# Altium footprint library PCB1.PcbLib: 21 footprints (part 1 of 2)
Each footprint in its own frame and in the unit in brackets; x right, y up, seen from the top. Pads: shape width x height; smd on the part's side, far side on the other; paste and mask are expansions set on the pad; w line width, h text height; cw(c..) or ccw(c..) is an arc to the next point about the centre after c.
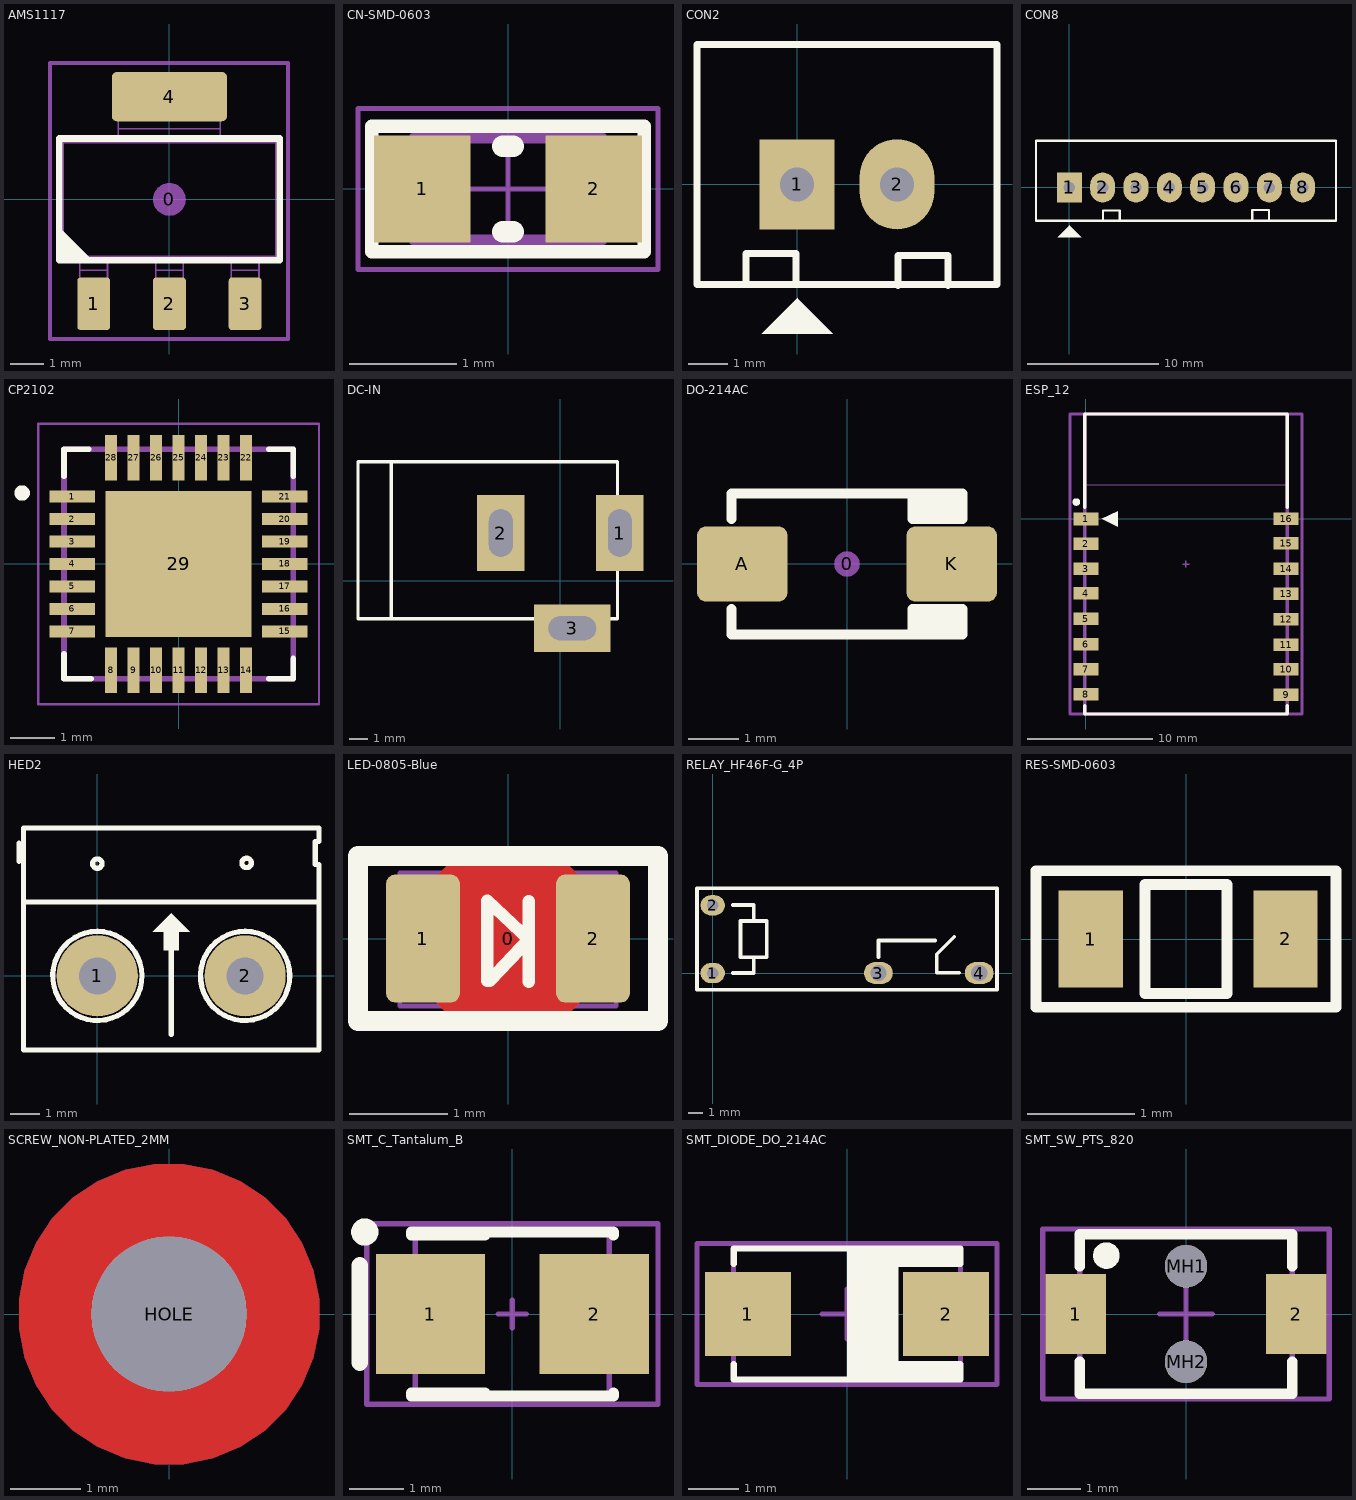
[diagram p0: the footprints below, top view; thin cyan lines are the x and y axes]

## AMS1117 [mm]
pads (5):
  round 1 on Mech15: 0(0,0)
  rrect20% 1x1.6 smd: 1(-2.3,-3.173) 2(0,-3.173) 3(2.3,-3.173)
  rrect20% 3.5x1.5 smd: 4(0,3.124)
Top Overlay:
  region: -3.35,-1.85 -3.35,-0.85 -2.35,-1.85
  lines w0.2: -3.35,-1.85 3.35,-1.85 3.35,1.85 -3.35,1.85 -3.35,-1.85
Mechanical 13:
  lines w0.05: -2.72,-3.186 -1.88,-3.186 ; -2.72,-3.062 -1.88,-3.062 ; -2.72,-2.506 -1.88,-2.506 ; -2.72,-2.152 -1.88,-2.152 ; -2.72,-1.85 -3.35,-1.85 ; -1.88,-1.85 -0.42,-1.85 ; -1.55,1.85 -3.35,1.85 ; -1.55,2.152 1.55,2.152 ; -1.55,2.506 1.55,2.506 ; -1.55,3.062 1.55,3.062 ; -1.55,3.186 1.55,3.186 ; -0.42,-3.186 0.42,-3.186 ; -0.42,-3.062 0.42,-3.062 ; -0.42,-2.506 0.42,-2.506 ; -0.42,-2.152 0.42,-2.152 ; 0.42,-1.85 1.88,-1.85 ; 1.55,1.85 3.35,1.85 ; 1.88,-3.186 2.72,-3.186 ; 1.88,-3.062 2.72,-3.062 ; 1.88,-2.506 2.72,-2.506 ; 1.88,-2.152 2.72,-2.152 ; 2.72,-1.85 3.35,-1.85 ; -3.35,-1.85 -3.35,1.85 ; -3.35,-1.85 -3.23,-1.731 ; -3.35,1.85 -3.23,1.731 ; -3.23,-1.731 3.231,-1.731 ; -3.23,-1.731 -3.23,1.731 ; -3.23,1.731 3.231,1.731 ; 3.231,-1.731 3.231,1.731 ; 3.231,-1.731 3.35,-1.85 ; 3.231,1.731 3.35,1.85 ; 3.35,-1.85 3.35,1.85 ; -2.72,-3.65 -2.72,-1.829 -1.88,-1.829 -1.88,-3.65 -2.72,-3.65 ; -1.55,1.829 1.55,1.829 1.55,3.65 -1.55,3.65 -1.55,1.829 ; -0.42,-3.65 -0.42,-1.829 0.42,-1.829 0.42,-3.65 -0.42,-3.65 ; 1.88,-3.65 2.72,-3.65 2.72,-1.829 1.88,-1.829 1.88,-3.65
Mechanical 15:
  lines w0.127: -3.632,-4.242 3.607,-4.242 3.607,4.14 -3.632,4.14 -3.632,-4.242
3D body "User Library-SOT223-3.STEP": height 1.7, standoff 0, extent -3.25,-3.5 3.25,3.5

## CN-SMD-0603 [mm]
pads (2):
  rect 0.9x1 smd: 1(-0.8,0) 2(0.8,0)
Top Overlay:
  lines w0.127: -1.27,-0.584 1.27,-0.584 1.27,0.584 -1.27,0.584 -1.27,-0.584
  lines w0.2: -0.05,-0.4 0.05,-0.4 ; -0.05,0.4 0.05,0.4
Mechanical 13:
  lines w0.1: -0.875,-0.475 0.875,-0.475 0.875,0.475 -0.875,0.475 -0.875,-0.475
Mechanical 15:
  lines w0.05: -0.475,0 0.475,0 ; 0,-0.475 0,0.475 ; -1.397,-0.75 1.397,-0.75 1.397,0.75 -1.397,0.75 -1.397,-0.75
3D body "User Library-0603 SMD Capacitor.step": height 0.3, standoff 0, extent -0.8,-0.4 0.8,0.4

## CON2 [mil] "CON2"
height 200
pads (2):
  rect 75x90 hole 34: 1(0,0)
  oval 75x90 hole 34: 2(100,0)
Top Overlay:
  region: -35.5,-149.5 35.5,-149.5 0.5,-114.5 0.5,-113.5
  lines w7: -51,-99 -51,-69 -1,-69 -1,-99 ; 101,-101 101,-71 151,-71 151,-101 ; -100,-100 -100,140 200,140 200,-100 -100,-100
3D body "User Library-PCB HEADER (JST BxB-PH-K-S (VERTICAL)).STEP": height 236.22, standoff -75, extent -68.11,-70 168.11,107.17

## CON8 [mil] "CON8"
height 200
pads (8):
  rect 75x90 hole 34: 1(0,0)
  oval 75x90 hole 34: 2(100,0) 3(200,0) 4(300,0) 5(400,0) 6(500,0) 7(600,0) 8(700,0)
Top Overlay:
  region: -35.5,-149.5 35.5,-149.5 0.5,-114.5 0.5,-113.5
  lines w7: 101,-99 101,-69 151,-69 151,-99 ; 549,-98 549,-68 599,-68 599,-98 ; -100,-100 -100,140 800,140 800,0 800,-100 -100,-100

## CP2102 [mm]
pads (29):
  rect 1.01x0.27 smd: 1(-2.36,1.5) 2(-2.36,1) 3(-2.36,0.5) 4(-2.36,0) 5(-2.36,-0.5) 6(-2.36,-1) 7(-2.36,-1.5) 15(2.36,-1.5) 16(2.36,-1) 17(2.36,-0.5) 18(2.36,0) 19(2.36,0.5) 20(2.36,1) 21(2.36,1.5)
  rect 0.27x1.01 smd: 8(-1.5,-2.36) 9(-1,-2.36) 10(-0.5,-2.36) 11(0,-2.36) 12(0.5,-2.36) 13(1,-2.36) 14(1.5,-2.36) 22(1.5,2.36) 23(1,2.36) 24(0.5,2.36) 25(0,2.36) 26(-0.5,2.36) 27(-1,2.36) 28(-1.5,2.36)
  rect 3.25x3.25 smd: 29(0,0)
Top Overlay:
  circle w0.2: c-3.478,1.578 r0.07
  lines w0.127: -2.55,-2 -2.55,-2.55 -1.95,-2.55 ; -2.55,1.95 -2.55,2.55 -2,2.55 ; 2,-2.55 2.55,-2.55 2.55,-2.1 ; 2,2.55 2.55,2.55 2.55,1.95
Top Paste:
  region: -0.18,-1.333 -1.333,-1.333 -1.333,-0.18 -0.18,-0.18
  region: -1.331,0.179 -1.331,1.332 -0.182,1.332 -0.182,0.179
  region: 1.332,-0.182 1.332,-1.332 0.178,-1.332 0.178,-0.182
  region: 0.18,1.33 1.33,1.33 1.33,0.18 0.18,0.18
Mechanical 1:
  lines w0.127: -2.55,-2.55 -2.55,2.55 2.55,2.55 2.55,-2.55 -2.55,-2.55
Mechanical 4:
  lines w0.05: -3.12,-3.12 -3.12,3.12 3.12,3.12 3.12,-3.12 -3.12,-3.12
3D body "User Library-QFN28-0_5.STEP": height 1, standoff 0, extent -2.5,-2.5 2.5,2.5

## DC-IN [mil] "Jac DC input"
height 200
pads (3):
  rect 100x160 hole 50 slot 100 at 90 deg: 1(125,100) 2(-125,100)
  rect 160x100 hole 50 slot 100 at 0 deg: 3(25,-100)
Top Overlay:
  lines w7: -355,-80 -355,250 ; -425,-80 120,-80 120,250 -425,250 -425,-80
3D body "SW3dPS-dc range - dc connector[4840.2201].STEP": height 433.67, standoff -137.2, extent -410.35,-105.12 134,269.12

## DO-214AC [mm] "JEDEC DO214 variation AC. SMA"
height 2.5
pads (3):
  round 0.508 on Mech15: 0(0,0)
  rrect25% 1.8x1.5 smd: A(-2.083,0) K(2.083,0)
Top Overlay:
  rectangle: 1.3,0.9 2.3,1.4
  rectangle: 1.3,-1.4 2.3,-0.9
  lines w0.2: -2.3,-0.9 -2.3,-1.4 2.3,-1.4 2.3,-0.9 1.3,-0.9 1.3,-1.4 ; -2.3,0.9 -2.3,1.4 2.3,1.4 2.3,0.9 1.3,0.9 ; 1.3,0.911 1.3,1.4
3D body "User Library-DO-214AC.STEP": height 2.6, standoff 0.03, extent -2.75,-1.375 2.75,1.425

## ESP_12 [mm] "ESP-12 Wi-Fi Module by AI-Thinker"
pads (16):
  rect 2x1 smd: 1(0,0) 2(0,-1.97) 3(0,-3.97) 4(0,-5.94) 5(0,-7.98) 6(0,-9.99) 7(0,-11.98) 8(0,-13.99) 9(16,-14.03) 10(16,-11.99) 11(16,-10.03) 12(16,-8.01) 13(16,-5.95) 14(16,-3.97) 15(16,-1.95) 16(16,0.03)
Top Overlay:
  circle w0.3: c-0.762,1.356 r0.15
  region: 1.27,0 2.54,-0.635 2.54,0.635
  lines w0.254: -0.084,-14.916 -0.084,-15.568 16.084,-15.568 16.084,-14.916 ; -0.084,0.916 -0.084,8.371 16.084,8.371 16.084,0.916
Mechanical 13:
  lines w0.051: -0.127,2.727 16.129,2.727 16.129,8.382 -0.127,8.382 -0.127,2.727
  lines w0.254: -0.084,-15.568 -0.084,8.371 16.084,8.371 16.084,-15.568 -0.084,-15.568
  text "ANTENNA AREA" at 0.127,7.874 h0.25
  text "CUTOUT POLYGON" at 0.127,7.366 h0.25
Mechanical 15:
  lines w0.1: 7.746,-3.598 8.254,-3.598 ; 8,-3.852 8,-3.344
  lines w0.254: -1.27,-15.568 17.272,-15.568 17.272,8.371 -1.27,8.371 -1.27,-15.568
3D body "ESP_12_E.STEP": height 2.75, standoff 0.04, extent 0.001,-15.491 16.001,8.509

## HED2 [mil] "Header 2, 2 pin, hight 300mil, Pin to Pin 200, Colour Green"
height 300
pads (2):
  round 110 hole 50: 1(0,0) 2(200,0)
Top Overlay:
  circle w7: c202,153 r6.4
  circle w7: c0,152 r6.4
  region: 100,85 75,60 90,60 90,35 110,35 110,60 125,60
  lines w7: -106,155 -106,180 ; -98,100 299,100 ; 38.83,46.23 ccw(c0,0) 40.11,45.12 ; 100,-79 100,72 ; 238.74,46.3 ccw(c200,0) 240.11,45.12 ; -100,-100 -100,50 -100,200 300,200 300,182 295,182 295,151 300,151 300,-100 -100,-100
3D body "SW3dPS-KRM2.STEP": height 393.7, standoff -157.48, extent -91.85,-140 301.85,155.28

## LED-0805-Blue [mm] "LED SMD, Body 2.0x1.2mm, EIA 0805, IPC Medium Density"
height 0.7
pads (3):
  round 0.254 on Mech15: 0(0,0)
  rrect25% 0.75x1.3 smd: 1(-0.864,0) 2(0.864,0)
Top Layer:
  pour cut-out: -0.725,0.64 -0.525,0.84 0.525,0.84 0.725,0.64 0.725,-0.66 0.525,-0.86 -0.525,-0.86 -0.725,-0.66
Top Overlay:
  lines w0.127: -0.21,-0.43 -0.21,0.385 0.21,-0.01 -0.185,-0.43 ; 0.21,-0.44 0.21,0.38
  lines w0.2: -1.524,-0.838 1.524,-0.838 1.524,0.838 -1.524,0.838 -1.524,-0.838
Mechanical 13:
  lines w0.05: 0.6,-0.684 -0.6,-0.684 ; -0.6,-0.684 0.6,-0.684 ; -0.6,-0.685 -1.1,-0.685 -1.1,0.665 -0.6,0.665 -0.6,-0.685 ; 0.6,-0.685 1.1,-0.685 1.1,0.665 0.6,0.665 0.6,-0.685 ; -0.6,0.664 0.6,0.664 -0.6,0.664
Mechanical 15:
  lines w0.1: -1.524,-0.85 -1.524,0.85 1.524,0.85 1.524,-0.85 -1.524,-0.85
3D body "User Library-led_0805-blue.step": height 1.1, standoff 0, extent -1.01,-0.625 1.01,0.625

## RELAY_HF46F-G_4P [mm]
pads (4):
  oval 1.7x1.4 hole 0.8: 1(0,0) 2(0,4.7)
  oval 2x1.524 hole 1.12: 3(11.5,0) 4(18.5,0)
Top Overlay:
  lines w0.254: 1.397,0 2.845,0 2.845,1.092 ; 1.397,4.724 2.845,4.724 2.845,3.632 ; 11.506,1.118 11.506,2.261 15.443,2.261 ; 16.764,2.515 15.545,1.295 15.545,0.025 17.12,0.025 ; 2.845,1.092 1.93,1.092 1.93,3.607 2.845,3.607 3.759,3.607 3.759,1.092 2.845,1.092 ; -1.092,-1.168 19.736,-1.168 19.736,5.893 -1.092,5.893 -1.092,-1.168
3D body "User Library-46F.STEP": height 15.02, standoff -3.7, extent -1.034,-1.183 19.373,5.817

## RES-SMD-0603 [mm]
pads (2):
  rect 0.6x0.9 smd: 1(-0.889,0) 2(0.927,0)
Top Overlay:
  lines w0.1: -1.397,-0.635 0.889,-0.635 1.397,-0.635 1.397,0.635 -1.397,0.635 -1.397,-0.635 ; -0.381,-0.508 0.381,-0.508 0.381,0.508 -0.381,0.508 -0.381,-0.508
3D body "User Library-SMD RESISTOR-1 (3).step": height 0.43, standoff -0.03, extent -0.8,-0.4 0.8,0.4

## SCREW_NON-PLATED_2MM [mm]
pads (1):
  round 2.2 hole 2.2 unplated paste+1 mask+1: HOLE(0,0)
Top Layer:
  pour cut-out: 0,-2.127 -0.209,-2.127 -0.62,-2.045 -1.007,-1.885 -1.356,-1.652 -1.652,-1.356 -1.885,-1.007 -2.045,-0.62 -2.127,-0.209 -2.127,0 -2.127,0.209 -2.045,0.62 -1.885,1.007 -1.652,1.356 -1.356,1.652 -1.007,1.885 -0.62,2.045 -0.209,2.127 0,2.127 0.209,2.127 0.62,2.045 1.007,1.885 1.356,1.652 1.652,1.356 1.885,1.007 2.045,0.62 2.127,0.209 2.127,0 2.127,-0.209 2.045,-0.62 1.885,-1.007 1.652,-1.356 1.356,-1.652 1.007,-1.885 0.62,-2.045 0.209,-2.127
Bottom Layer:
  pour cut-out: 0,-2.127 -0.209,-2.127 -0.62,-2.045 -1.007,-1.885 -1.356,-1.652 -1.652,-1.356 -1.885,-1.007 -2.045,-0.62 -2.127,-0.209 -2.127,0 -2.127,0.209 -2.045,0.62 -1.885,1.007 -1.652,1.356 -1.356,1.652 -1.007,1.885 -0.62,2.045 -0.209,2.127 0,2.127 0.209,2.127 0.62,2.045 1.007,1.885 1.356,1.652 1.652,1.356 1.885,1.007 2.045,0.62 2.127,0.209 2.127,0 2.127,-0.209 2.045,-0.62 1.885,-1.007 1.652,-1.356 1.356,-1.652 1.007,-1.885 0.62,-2.045 0.209,-2.127

## SMT_C_Tantalum_B [mm] "Capacitor, SM Tantalum; Body 3.5 x 2.8 mm (LxW typ)"
height 2.1
pads (2):
  rect 2x2.2 smd: 1(-1.5,0) 2(1.5,0)
Top Overlay:
  circle w0.25: c-2.7,1.5 r0.125
  lines w0.2: -1.85,-1.5 1.85,-1.5 1.85,-1.45 ; -1.85,-1.45 -0.5,-1.45 ; -1.85,1.45 -0.5,1.45 ; -1.85,1.5 1.85,1.5 1.85,1.45
  lines w0.305: -2.794,-0.889 -2.794,0.889
Mechanical 13:
  lines w0.1: -1.778,-1.524 -1.778,1.524 1.778,1.524 1.778,-1.524 -1.778,-1.524
Mechanical 15:
  lines w0.1: -0.254,0 0.254,0 ; 0,-0.254 0,0.254 ; -2.667,-1.651 2.667,-1.651 2.667,1.651 -2.667,1.651 -2.667,-1.651
3D body "User Library-Cap-Tantalum-Case-B-3528-21.step": height 1.9, standoff 0, extent -1.75,-1.403 1.75,1.397

## SMT_DIODE_DO_214AC [mm] "DO-214AC(SMA) Package"
height 2.438
pads (2):
  rect 1.7x1.67 smd: 1(-1.965,0) 2(1.965,0)
Top Overlay:
  region: 0,1.3 0,-1.3 1.025,-1.3 1.025,1.3
  region: 2.25,1.3 0,1.3 0,0.936 2.25,0.936
  rectangle: 0,-1.3 2.25,-0.936
  lines w0.127: -2.25,-1 -2.25,-1.3 2.25,-1.3 2.25,-1 ; -2.25,1 -2.25,1.3 2.25,1.3 2.25,1
Mechanical 13:
  lines w0.1: -2.25,-1.3 2.25,-1.3 2.25,1.3 -2.25,1.3 -2.25,-1.3
Mechanical 15:
  lines w0.1: -0.5,0 0.5,0 ; 0,-0.5 0,0.5 ; -2.975,-1.4 2.975,-1.4 2.975,1.4 -2.975,1.4 -2.975,-1.4
3D body "User Library-DO-214AC SMA.step": height 2.35, standoff -0.05, extent -2.6,-1.3 2.6,1.3

## SMT_SW_PTS_820 [mm] "SMT Tactile ?Switch PTS 820 Series"
height 2
pads (4):
  rect 1.143x1.5 smd: 1(-2.075,0) 2(2.075,0)
  round 0.8 hole 0.8 unplated: MH1(0,0.9) MH2(0,-0.9)
Top Overlay:
  circle w0.25: c-1.5,1.1 r0.125
  lines w0.2: -2,-0.9 -2,-1.5 2,-1.5 2,-0.9 ; -2,0.9 -2,1.5 2,1.5 2,0.9
Mechanical 13:
  lines w0.1: -2,-1.5 2,-1.5 2,1.5 -2,1.5 -2,-1.5
Mechanical 15:
  lines w0.1: -0.5,0 0.5,0 ; 0,-0.5 0,0.5 ; -2.7,-1.6 2.7,-1.6 2.7,1.6 -2.7,1.6 -2.7,-1.6
3D body "SMT Tactile Switch PTS-820.STEP": height 2.05, standoff -0.5, extent -2.25,-1.55 2.25,1.55